# Altium integrated library IRLR2905TRPBF.IntLib: 1 symbol
Pins are listed as number, name and electrical type; pins without a type are passive.

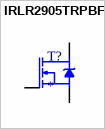
[diagram p0: symbol IRLR2905TRPBF]

## IRLR2905TRPBF
designator T?
MOSFET, Power,N-Ch,VDSS 55V,RDS(ON) 0.027Ohm,ID 42A,D-Pak (TO-252AA),PD 110W | Infineon IRLR2905TRPBF; SnapEDA_Link: https://www.snapeda.com/parts/IRLR2905TRPBF/Infineon/view-part/?ref=snap; Package: TO-252 Infineon; Value: *; MF: Infineon; MP: IRLR2905TRPBF; Check_prices: https://www.snapeda.com/parts/IRLR2905TRPBF/Infineon/view-part/?ref=eda
footprint TO252-3
pins: 1 G (io), 2 D (io), 3 S (io), PAD D (io)